# Altium footprint library STM32F103-V1.0.PcbLib: 29 footprints (part 1 of 2)
Each footprint in its own frame and in the unit in brackets; x right, y up, seen from the top. Pads: shape width x height; smd on the part's side, far side on the other; paste and mask are expansions set on the pad; w line width, h text height; cw(c..) or ccw(c..) is an arc to the next point about the centre after c.
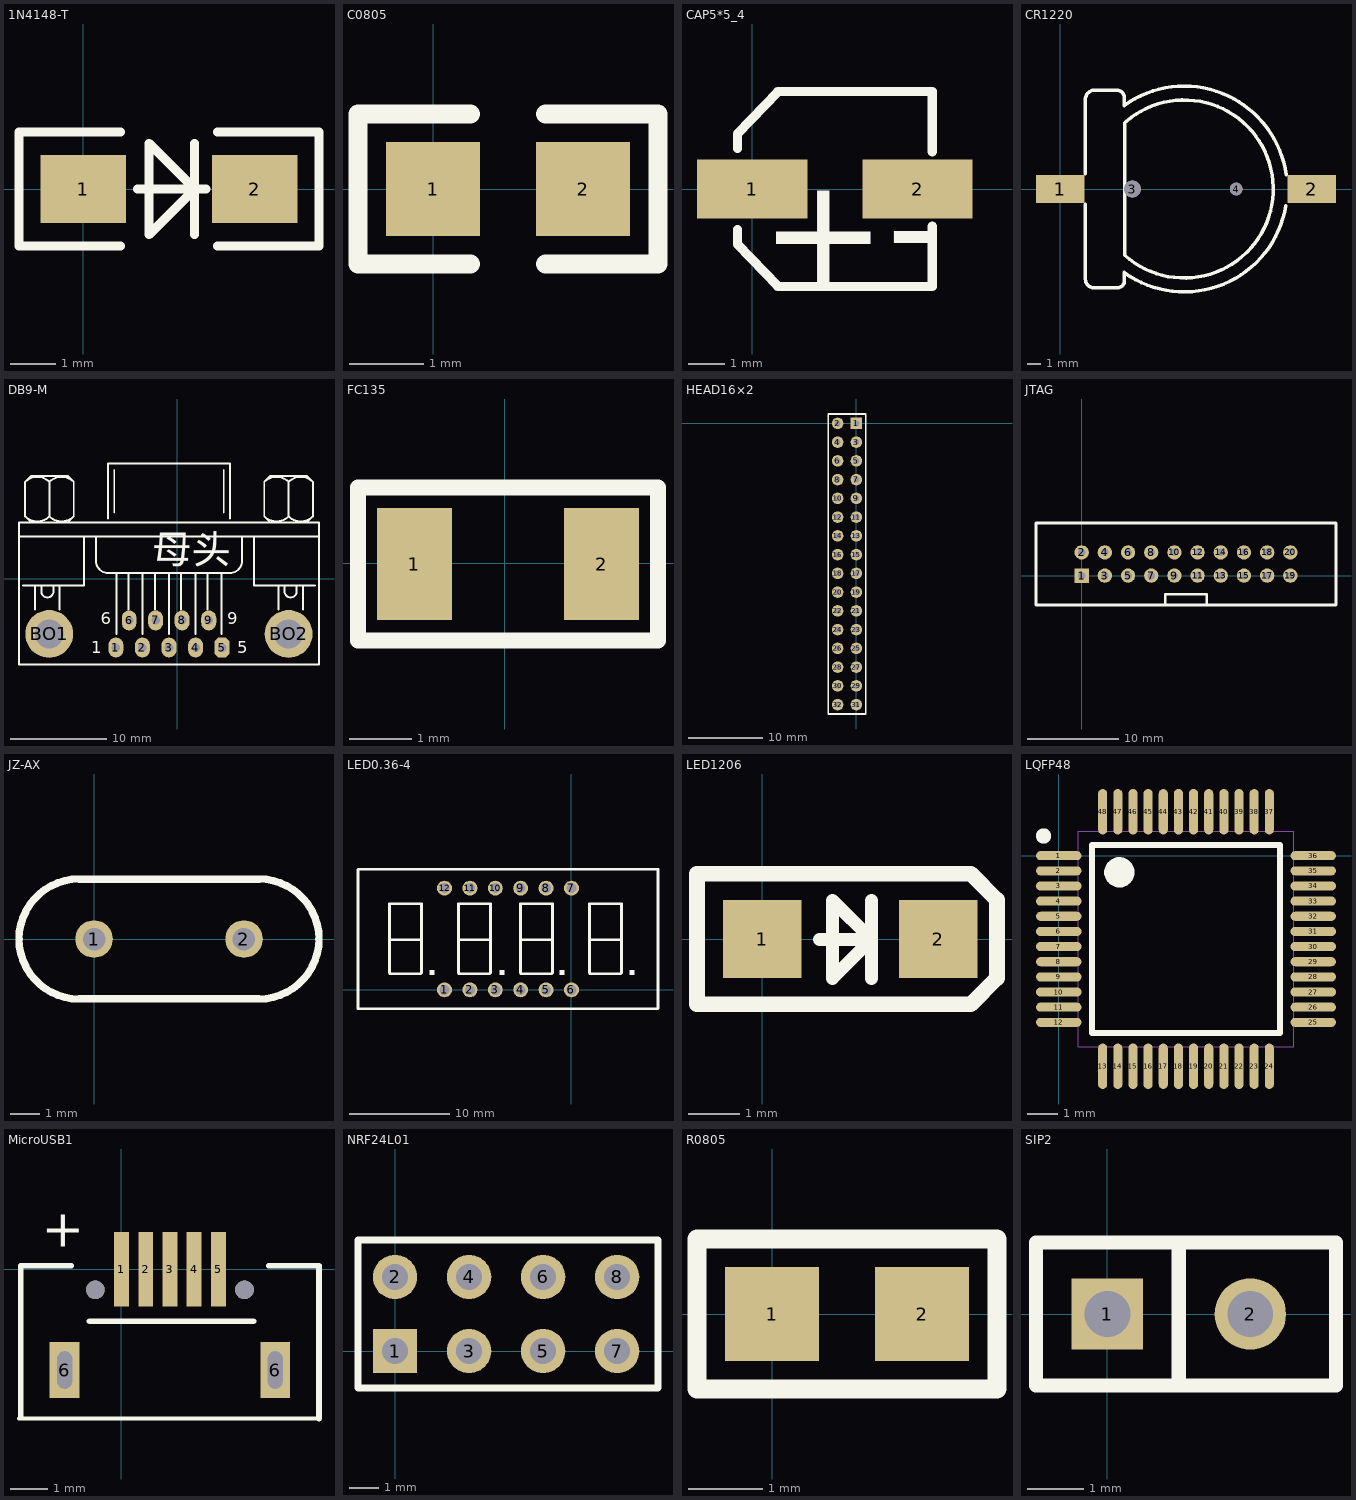
[diagram p0: the footprints below, top view; thin cyan lines are the x and y axes]

## 1N4148-T [mil]
pads (2):
  rect 75x60 smd: 1(0,0) 2(150,0)
Top Overlay:
  lines w7.87: 32.5,-50 -42.5,-50 -56.5,-50 -56.5,50 -42.5,50 32.5,50 ; 117.5,-50 192.5,-50 206.5,-50 206.5,50 ; 117.5,50 192.5,50 205.5,50
  lines w8: 47.5,0 107.5,0 ; 97.5,-40 97.5,40 ; 57.5,-40 97.5,0 57.5,40 57.5,-40

## C0805 [mil]
pads (2):
  rect 50x50 smd: 1(0,0) 2(80,0)
Top Overlay:
  lines w10: 20,-40 -40,-40 -40,40 20,40 ; 60,-40 120,-40 120,40 60,40
3D body "0805 SMD Capacitor.STEP": height 30.79, standoff 0, extent 0.63,-24.21 79.37,25

## CAP5*5_4 [mm]
pads (2):
  rect 3x1.6 smd: 1(0,0) 2(4.5,0)
Top Overlay:
  lines w0.254: -0.4,-1.1 -0.4,-1.5 0.7,-2.65 4.9,-2.65 4.9,-1.016 ; -0.4,1.1 -0.4,1.5 0.7,2.65 4.9,2.65 4.9,1.016
  text "+" at 0.22,-2.62 h3
  text "-" at 3.66,-2.44 h3
3D body "CAP5X5_4.STEP": height 5.41, standoff 0, extent -0.775,-2.675 5.125,2.625

## CR1220 [mm]
pads (4):
  rect 3.5x2 smd: 1(0,0) 2(18.067,0)
  round 1.2 hole 1.2: 3(5.181,0)
  round 0.9 hole 0.9: 4(12.631,0)
Top Overlay:
  lines w0.254: 1.806,-1.1 1.806,-6.5 ccw(c2.406,-6.5) 2.406,-7.1 4.106,-7.1 ccw(c4.106,-6.6) 4.606,-6.6 4.606,-6 ; 1.806,1.1 1.806,6.4 cw(c2.456,6.45) 2.406,7.1 4.106,7.1 ; 4.006,7.1 cw(c4.056,6.55) 4.606,6.6 4.606,6 ; 4.597,-6.016 ccw(c8.906,0) 16.208,-1.2 ; 4.596,6.015 cw(c8.906,0) 16.236,1.021 ; 4.636,-4.767 ccw(c8.906,0) 4.741,4.859 4.636,4.754 4.636,-4.767

## DB9-M [mil] "ĸͷ"
pads (11):
  oval 62x82 hole 35: 1(-251.63,-283.07) 2(-142.46,-283.07) 3(-33.29,-283.07) 4(75.87,-283.07) 7(-88.29,-171.4) 8(20.87,-171.4) 9(130.04,-171.4)
  oct 62x82 hole 35: 5(185.04,-283.07)
  oval 60x82 hole 35: 6(-197.46,-171.4)
  round 196.67 hole 118.33: BO1(-525.79,-227.24) BO2(458.37,-227.24)
Top Overlay:
  lines w8: -649.96,172.76 583.37,172.76 ; -633.29,-27.24 -383.29,-27.24 -383.29,172.76 ; -625.05,256.01 ccw(c-574.96,306.1) -524.87,256.01 ; -625.05,397.85 cw(c-574.96,347.76) -524.87,397.85 ; -599.96,231.1 -624.96,256.1 -624.96,397.76 -599.96,422.76 -449.96,422.76 -424.96,397.76 -424.96,256.1 -449.96,231.1 ; -583.29,-127.24 -583.29,-27.24 ; -558.29,-27.24 -558.29,-52.24 ccw(c-533.29,-52.24) -508.29,-52.24 -508.29,-27.24 ; -525.05,256.01 ccw(c-474.96,306.1) -424.87,256.01 ; -525.05,397.85 cw(c-474.96,347.76) -424.87,397.85 ; -524.96,256.1 -524.96,397.76 ; -483.29,-127.24 -483.29,-27.24 ; -333.29,172.76 -333.29,72.76 ccw(c-283.29,72.76) -283.29,22.76 216.71,22.76 ccw(c216.71,72.76) 266.71,72.76 266.71,172.76 ; -283.29,247.76 -283.29,472.76 216.71,472.76 216.71,247.76 ; -258.29,272.76 -258.29,447.76 ; -249.96,-227.24 -249.96,22.76 ; -199.96,-127.24 -199.96,22.76 ; -141.63,-227.24 -141.63,22.76 ; -91.63,-127.24 -91.63,22.76 ; -33.29,-227.24 -33.29,22.76 ; 16.71,-127.24 16.71,22.76 ; 75.04,-227.24 75.04,22.76 ; 125.04,-127.24 125.04,22.76 ; 183.37,-227.24 183.37,22.76 ; 191.71,272.76 191.71,447.76 ; 316.71,172.76 316.71,-27.24 566.71,-27.24 ; 358.29,256.01 ccw(c408.37,306.1) 458.46,256.01 ; 358.29,397.85 cw(c408.37,347.76) 458.46,397.85 ; 383.37,231.1 358.37,256.1 358.37,397.76 383.37,422.76 533.37,422.76 558.37,397.76 558.37,256.1 533.37,231.1 ; 416.71,-127.24 416.71,-27.24 ; 441.71,-27.24 441.71,-52.24 ccw(c466.71,-52.24) 491.71,-52.24 491.71,-27.24 ; 458.29,256.01 ccw(c508.37,306.1) 558.46,256.01 ; 458.29,397.85 cw(c508.37,347.76) 558.46,397.85 ; 458.37,256.1 458.37,397.76 ; 516.71,-127.24 516.71,-27.24 ; -649.96,-352.24 583.37,-352.24 583.37,231.1 -649.96,231.1 -649.96,-352.24
  text "9" at 206.71,-187.24 h50
  text "5" at 246.71,-307.24 h50
  text "1" at -353.29,-307.24 h50
  text "6" at -313.29,-187.24 h50
  text "母头" at -101.57,64.17 h118.11

## FC135 [mm]
pads (2):
  rect 1.2x1.8 smd: 1(-1.451,-0.01) 2(1.549,-0.01)
Top Overlay:
  lines w0.254: -2.351,-1.235 2.449,-1.235 2.449,1.215 -2.351,1.215 -2.351,-1.235
3D body "FC135.STEP": height 0.91, standoff 0, extent -1.536,-0.745 1.684,0.775

## HEAD16×2 [mm]
pads (32):
  rect 1.57x1.57 hole 0.8: 1(0,0)
  round 1.57 hole 0.8: 2(-2.54,0) 3(0,-2.54) 4(-2.54,-2.54) 5(0,-5.08) 6(-2.54,-5.08) 7(0,-7.62) 8(-2.54,-7.62) 9(0,-10.16) 10(-2.54,-10.16) 11(0,-12.7) 12(-2.54,-12.7) 13(0,-15.24) 14(-2.54,-15.24) 15(0,-17.78) 16(-2.54,-17.78) 17(0,-20.32) 18(-2.54,-20.32) 19(0,-22.86) 20(-2.54,-22.86) 21(0,-25.4) 22(-2.54,-25.4) 23(0,-27.94) 24(-2.54,-27.94) 25(0,-30.48) 26(-2.54,-30.48) 27(0,-33.02) 28(-2.54,-33.02) 29(0,-35.56) 30(-2.54,-35.56) 31(0,-38.1) 32(-2.54,-38.1)
Top Overlay:
  lines w0.254: -3.81,-39.37 1.27,-39.37 1.27,1.27 -3.81,1.27 -3.81,-39.37

## JTAG [mm] "JTAG-20PIN"
pads (20):
  rect 1.57x1.57 hole 0.82: 1(0,0)
  round 1.57 hole 0.82: 2(0,2.54) 3(2.54,0) 4(2.54,2.54) 5(5.08,0) 6(5.08,2.54) 7(7.62,0) 8(7.62,2.54) 9(10.16,0) 10(10.16,2.54) 11(12.7,0) 12(12.7,2.54) 13(15.24,0) 14(15.24,2.54) 15(17.78,0) 16(17.78,2.54) 17(20.32,0) 18(20.32,2.54) 19(22.86,0) 20(22.86,2.54)
Top Overlay:
  lines w0.254: 9.144,-3.048 9.144,-2.032 13.716,-2.032 13.716,-3.23
  lines w0.305: -5,-3.23 27.86,-3.23 27.86,5.77 -5,5.77 -5,-3.23
3D body: height 4, standoff 0, extent -0.762,-0.762 0.802,0.805
3D body: height 4, standoff 0, extent 1.778,-0.762 3.342,0.805
3D body: height 4, standoff 0, extent 4.318,-0.762 5.882,0.805
3D body: height 4, standoff 0, extent 11.938,-0.762 13.502,0.805
3D body: height 4, standoff 0, extent 9.398,-0.762 10.962,0.805
3D body: height 4, standoff 0, extent 6.858,-0.762 8.422,0.805
3D body: height 4, standoff 0, extent 19.558,-0.762 21.122,0.805
3D body: height 4, standoff 0, extent 17.018,-0.762 18.582,0.805
3D body: height 4, standoff 0, extent 14.478,-0.762 16.042,0.805
3D body: height 4, standoff 0, extent 22.098,-0.762 23.662,0.805
3D body: height 4, standoff 0, extent 22.098,1.778 23.662,3.345
3D body: height 4, standoff 0, extent 14.478,1.778 16.042,3.345
3D body: height 4, standoff 0, extent 17.018,1.778 18.582,3.345
3D body: height 4, standoff 0, extent 19.558,1.778 21.122,3.345
3D body: height 4, standoff 0, extent 6.858,1.778 8.422,3.345
3D body: height 4, standoff 0, extent 9.398,1.778 10.962,3.345
3D body: height 4, standoff 0, extent 11.938,1.778 13.502,3.345
3D body: height 4, standoff 0, extent 4.318,1.778 5.882,3.345
3D body: height 4, standoff 0, extent 1.778,1.778 3.342,3.345
3D body: height 4, standoff 0, extent -0.762,1.778 0.802,3.345
3D body: height 3, standoff 0, extent -5,-3.23 27.86,5.77

## JZ-AX [mil]
pads (2):
  round 50 hole 30: 1(0,0) 2(200,0)
Top Overlay:
  lines w10: -20,-80 cw(c-20,0) -20,80 220,80 cw(c220,0) 220,-80 -20,-80

## LED0.36-4 [mm] "0.36英寸4位数码管共阳"
pads (12):
  round 1.5 hole 1: 1(-12.7,0) 2(-10.16,0) 3(-7.62,0) 4(-5.08,0) 5(-2.54,0) 6(0,0) 7(0,10.16) 8(-2.54,10.16) 9(-5.08,10.16) 10(-7.62,10.16) 11(-10.16,10.16) 12(-12.7,10.16)
Top Overlay:
  rectangle: 5.8,1.5 6.3,2
  rectangle: -1.2,1.5 -0.7,2
  rectangle: -7.2,1.5 -6.7,2
  rectangle: -14.2,1.5 -13.7,2
  lines w0.254: -21.125,12.06 8.425,12.06 ; -20.9,12.06 -21.3,12.06 -21.35,12.01 -21.35,10.16 -21.35,0 -21.35,-1.675 -21.35,-1.89 -21.34,-1.9 -21.125,-1.9 8.425,-1.9 8.6,-1.9 8.65,-1.85 8.65,0 8.65,10.16 8.65,12.05 8.64,12.06 8.1,12.06 ; -18.2,5 -15.1,5 -15,5.1 ; -11.3,5 -8.2,5 -8.1,5.1 ; -5.1,5 -2,5 -1.9,5.1 ; 1.8,5 4.9,5 5,5.1 ; -18.2,1.7 -18.159,1.6 -15.1,1.6 -15,1.7 -15,8.6 -17.8,8.6 -18.2,8.6 -18.2,1.7 ; -11.3,1.7 -11.3,8.6 -10.9,8.6 -8.1,8.6 -8.1,1.7 -8.2,1.6 -11.259,1.6 -11.3,1.7 ; -5.1,1.7 -5.1,8.6 -4.7,8.6 -1.9,8.6 -1.9,1.7 -2,1.6 -5.059,1.6 -5.1,1.7 ; 1.8,1.7 1.841,1.6 4.9,1.6 5,1.7 5,8.6 2.2,8.6 1.8,8.6 1.8,1.7

## LED1206 [mil]
pads (2):
  rect 60x60 smd: 1(0,0) 2(135,0)
Top Overlay:
  lines w10: 43.78,-0.32 83.78,-0.32 ; 83.78,-30.32 83.78,29.68 ; 83.78,-0.32 53.78,-30.32 53.78,29.68 83.78,-0.32
  lines w12: -50,-50 -50,50 25,50 110,50 160,50 180,30 180,-20 180,-30 160,-50 120,-50 70,-50 25,-50 -50,-50

## LQFP48 [mm] "LQFP48-7×7mm-STM32F051C8T6"
pads (48):
  oval 1.5x0.3 smd: 1(0,0) 2(0,-0.5) 3(0,-1) 4(0,-1.5) 5(0,-2) 6(0,-2.5) 7(0,-3) 8(0,-3.5) 9(0,-4) 10(0,-4.5) 11(0,-5) 12(0,-5.5) 25(8.4,-5.5) 26(8.4,-5) 27(8.4,-4.5) 28(8.4,-4) 29(8.4,-3.5) 30(8.4,-3) 31(8.4,-2.5) 32(8.4,-2) 33(8.4,-1.5) 34(8.4,-1) 35(8.4,-0.5) 36(8.4,0)
  oval 0.3x1.5 smd: 13(1.45,-6.95) 14(1.95,-6.95) 15(2.45,-6.95) 16(2.95,-6.95) 17(3.45,-6.95) 18(3.95,-6.95) 19(4.45,-6.95) 20(4.95,-6.95) 21(5.45,-6.95) 22(5.95,-6.95) 23(6.45,-6.95) 24(6.95,-6.95) 37(6.95,1.45) 38(6.45,1.45) 39(5.95,1.45) 40(5.45,1.45) 41(4.95,1.45) 42(4.45,1.45) 43(3.95,1.45) 44(3.45,1.45) 45(2.95,1.45) 46(2.45,1.45) 47(1.95,1.45) 48(1.45,1.45)
Top Overlay:
  circle w0.25: c-0.5,0.65 r0.125
  circle w0.5: c2,-0.55 r0.25
  lines w0.2: 1.1,-5.85 7.3,-5.85 7.3,0.35 1.1,0.35 1.1,-5.85
Mechanical 16:
  lines w0.001: 0.65,-6.3 7.75,-6.3 7.75,0.8 0.65,0.8 0.65,-6.3

## MicroUSB1 [mm] "MircroUSBĸͷ"
pads (9):
  rect 0.4x2 smd: 1(0,0) 2(0.65,0) 3(1.3,0) 4(1.95,0) 5(2.6,0)
  rect 0.8x1.5 hole 0.4 slot 1 at 90 deg: 6(-1.525,-2.7) 6(4.125,-2.7)
  round 0.5 hole 0.5 unplated: ""(-0.7,-0.55) ""(3.3,-0.55)
Top Overlay:
  lines w0.1: -2.75,-4 5.3,-4
  lines w0.152: -2.7,-3.95 -2.7,-1.616 -2.7,0.1 -1.35,0.1 ; -0.859,-1.391 3.541,-1.391 ; 3.95,0.1 5.3,0.1 5.3,-1.65 5.3,-4
  text "+" at -2.137,0.608 h1
Keep-Out Layer:
  lines w0.127: -1.754,-3.243 -1.754,-2.125 -1.296,-2.125 -1.296,-3.243 -1.754,-3.243 ; 3.896,-3.243 3.896,-2.125 4.354,-2.125 4.354,-3.243 3.896,-3.243
Mechanical 1:
  lines w0.127: -1.754,-3.243 -1.296,-3.243 -1.296,-2.125 -1.754,-2.125 -1.754,-3.243 ; 3.896,-3.243 4.354,-3.243 4.354,-2.125 3.896,-2.125 3.896,-3.243

## NRF24L01 [mil]
pads (8):
  rect 60x60 hole 35: 1(0,0)
  round 60 hole 35: 2(0,100) 3(100,0) 4(100,100) 5(200,0) 6(200,100) 7(300,0) 8(300,100)
Top Overlay:
  lines w10: -50,-50 -50,50 -50,150 355.16,150 355.16,-50 -50,-50

## R0805 [mil]
pads (2):
  rect 50x50 smd: 1(0,0) 2(80,0)
Top Overlay:
  lines w10: -40,-40 120,-40 120,40 -40,40 -40,-40

## SIP2 [mil]
pads (2):
  rect 50x50 hole 32: 1(0,0)
  round 50 hole 32: 2(100,0)
Top Overlay:
  lines w10: 50,-50 50,50 ; -50,-50 -50,50 160,50 160,-50 -50,-50